# EAGLE library part 74*238 (library mcpu)
3 TO 8 LINE DECODER (DEMULTIPLEXER)
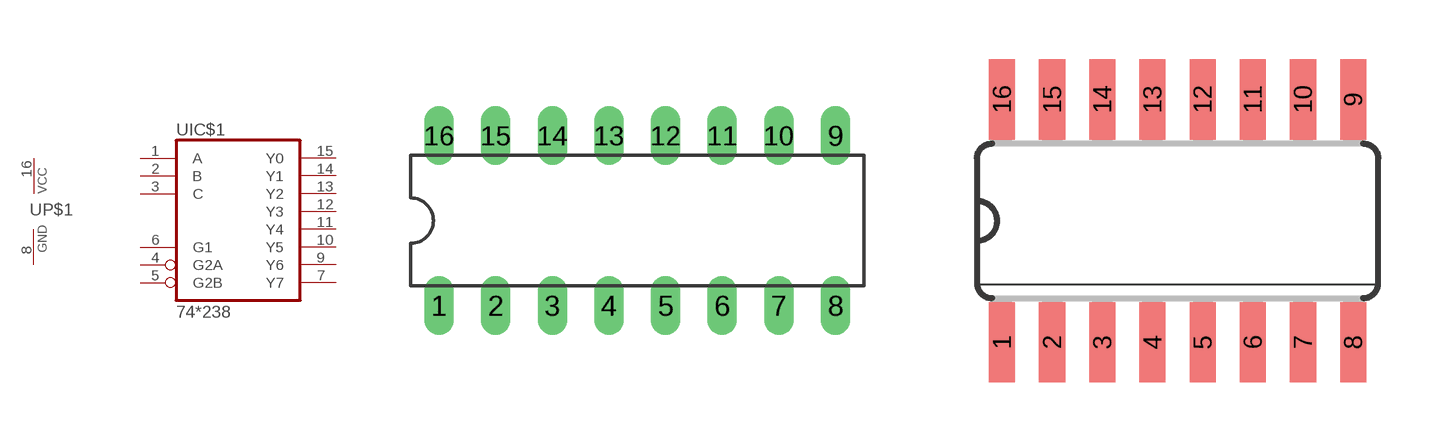
[diagram p0: symbol with the pads of DIL16; footprints DIL16, SO16]

Designator prefix -; gates IC$1=74238 P$1=PWRN

## 74238DIL, 74HCT238DIL  [DIL16]
1  IC$1:A  in
2  IC$1:B  in
3  IC$1:C  in
4  IC$1:G2A  in
5  IC$1:G2B  in
6  IC$1:G1  in
7  IC$1:Y7  out
8  P$1:GND  pwr
9  IC$1:Y6  out
10  IC$1:Y5  out
11  IC$1:Y4  out
12  IC$1:Y3  out
13  IC$1:Y2  out
14  IC$1:Y1  out
15  IC$1:Y0  out
16  P$1:VCC  pwr

## 74238SO16  [SO16]
Pads as for DIL16

## Footprint DIL16 (pad centres in mm)
Dual In Line Package
drill 0.813 long: 1 -8.89,-3.81; 2 -6.35,-3.81; 3 -3.81,-3.81; 4 -1.27,-3.81; 5 1.27,-3.81; 6 3.81,-3.81; 7 6.35,-3.81; 8 8.89,-3.81; 9 8.89,3.81; 10 6.35,3.81; 11 3.81,3.81; 12 1.27,3.81; 13 -1.27,3.81; 14 -3.81,3.81; 15 -6.35,3.81; 16 -8.89,3.81

## Footprint SO16 (pad centres in mm)
Small Outline package 150 mil
smd 0.66 x 2.032: 1 -4.445,-3.073; 2 -3.175,-3.073; 3 -1.905,-3.073; 4 -0.635,-3.073; 5 0.635,-3.073; 6 1.905,-3.073; 7 3.175,-3.073; 8 4.445,-3.073; 9 4.445,3.073; 10 3.175,3.073; 11 1.905,3.073; 12 0.635,3.073; 13 -0.635,3.073; 14 -1.905,3.073; 15 -3.175,3.073; 16 -4.445,3.073